# EAGLE library part 10104111-0001LF (library 10104111-0001LF)
FCI Right Angle SMT Female Type AB Version 2.0 Micro USB Connector, 100 V ac, 1.8A Source: Datasheet <http://uk.rs-online.com/web/p/products/1622014>
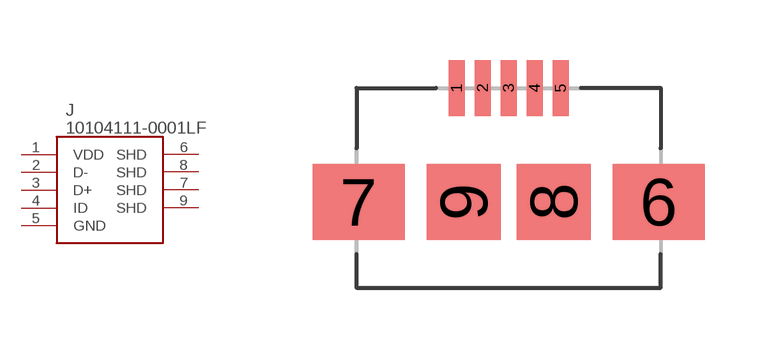
[diagram p0: symbol with the pads of MICRO_USB_A/B_TYPE_RECEPTACLE; footprint MICRO_USB_A/B_TYPE_RECEPTACLE]

Designator prefix J

## 10104111-0001LF (ALLIED_NUMBER: 70236825; DESCRIPTION: FCI Right Angle SMT Female Type AB Version 2.0 Micro USB Connector, 100 V ac, 1.8A; HEIGHT: mm; MANUFACTURER_NAME: FCI; MANUFACTURER_PART_NUMBER: 10104111-0001LF; RS_PART_NUMBER: 1622014)  [MICRO_USB_A/B_TYPE_RECEPTACLE]
1  VDD
2  D-
3  D+
4  ID
5  GND
6  SHD
7  SHD
8  SHD
9  SHD

## Footprint MICRO_USB_A/B_TYPE_RECEPTACLE (pad centres in mm)
MICRO_USB_A/B_TYPE_RECEPTACLE
smd 0.4 x 1.4: 1 -1.31,-0.08; 2 -0.66,-0.08; 3 -0.01,-0.08; 4 0.64,-0.08; 5 1.29,-0.08
smd 2.3 x 1.9: 6 3.74,-2.93; 7 -3.76,-2.93
smd 1.85 x 1.9: 8 1.115,-2.93; 9 -1.135,-2.93